# Altium schematic symbol library MIC39151-1P65WU.SchLib: 1 symbol
Pins are listed as number, name and electrical type; pins without a type are passive.

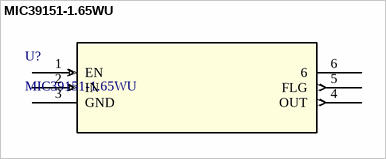
[diagram p0: symbol MIC39151-1.65WU]

## MIC39151-1.65WU
designator U?
No Description Available; Mfr_Name: Micrel; Copyright: Copyright (C) 2022 Ultra Librarian. All rights reserved.; Manufacturer_Part_Number: MIC39151-1.65WU; Digi-Key_Part_Number_1: MIC39151-1.65WU-ND; RefDes: RefDes; Type: DEV
footprint TO-263-5_MCL
pins: 1 EN (in), 2 IN (in), 3 GND (power), 4 OUT (out), 5 FLG (out), 6